# EAGLE library part MIDIJACK (library EFM8Midi)
DIN 5 jack also known as MIDI jack A modification of conn-hirshman:MAB5SH with two options for the grounding 'teeth'
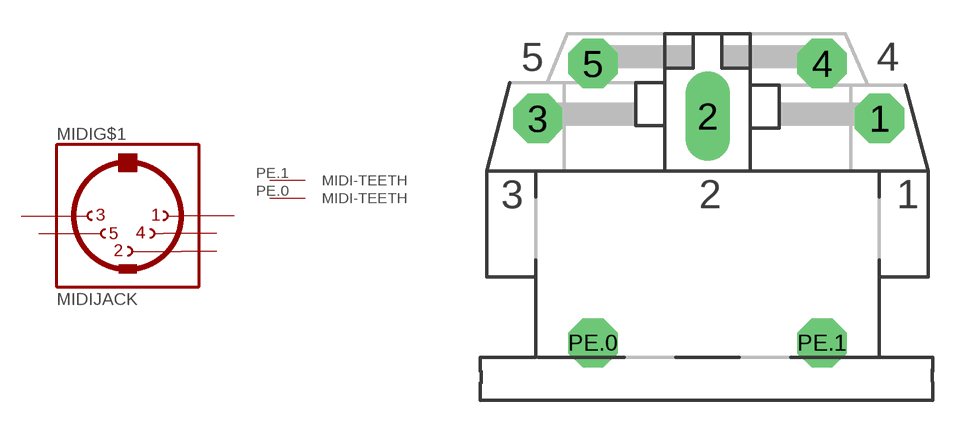
[diagram p1: symbol with the pads of MIDI-CP-2350; footprint MIDI-CP-2350]

Designator prefix MIDI; gates G$1=DIN-5 G$4=MIDI-T G$5=MIDI-T

## MIDIJACK  [MIDI-CP-2350]
1  G$1:1  pas
2  G$1:2  pas
3  G$1:3  pas
4  G$1:4  pas
5  G$1:5  pas
PE.0  G$4:MIDI-TEETH  pas
PE.1  G$5:MIDI-TEETH  pas

## Footprint MIDI-CP-2350 (pad centres in mm)
Female CONNECTOR 5 pins 90 deg. with shield, horizontal (DIN 41524)
drill 1.321 pad 2.184 octagon: 1 7.62,12.58; 3 -7.52,12.58; 4 5.08,15.02; 5 -5.08,15.02; PE.0 -5.08,2.62; PE.1 5.08,2.62
drill 1.321 long: 2 0,12.68